# Altium footprint library Diode_SMD.PcbLib: 69 footprints (part 5 of 5)
Each footprint in its own frame and in the unit in brackets; x right, y up, seen from the top. Pads: shape width x height; smd on the part's side, far side on the other; paste and mask are expansions set on the pad; w line width, h text height; cw(c..) or ccw(c..) is an arc to the next point about the centre after c.
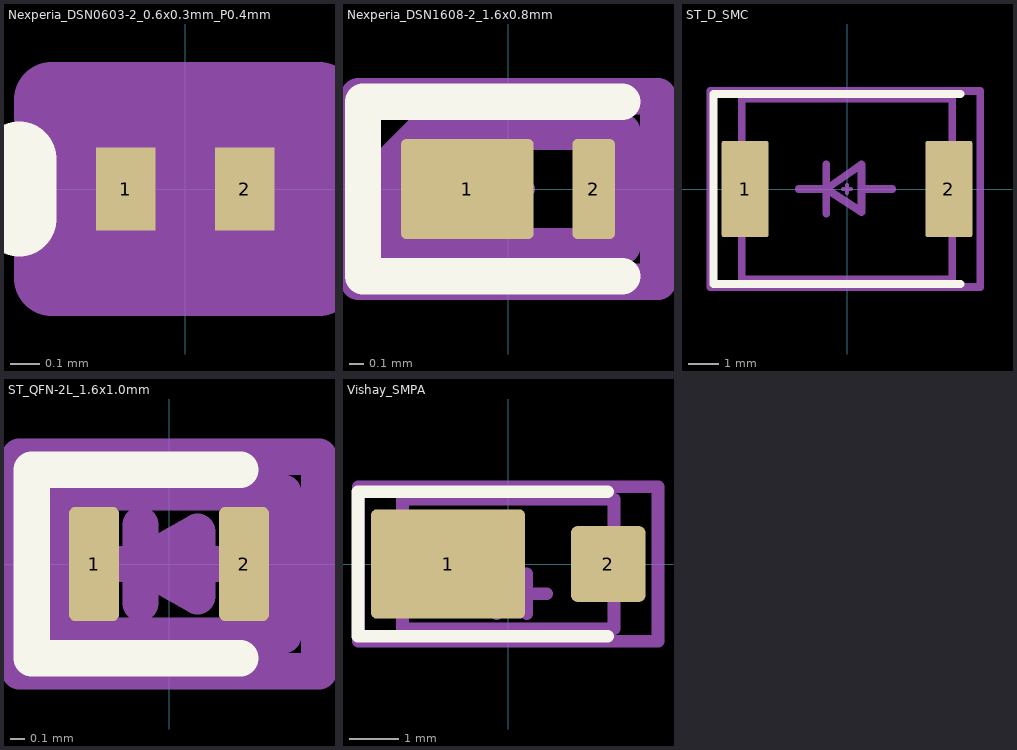
[diagram p4: the footprints below, top view; thin cyan lines are the x and y axes]

## Nexperia_DSN0603-2_0.6x0.3mm_P0.4mm [mm] "Nexperia_DSN0603-2_0.6x0.3mm_P0.4mm"
pads (2):
  rect 0.2x0.28 smd: 1(-0.2,0) 2(0.2,0)
F.SilkS:
  lines w0.254: -0.56,-0.1 -0.56,0.1
F.Paste:
  circle w0.254: c-0.208,0 r0.128
  circle w0.254: c0.208,0 r0.128
Top Component Center:
  lines w0.127: -0.127,0 0.127,0 ; 0,-0.127 0,0.127
Top Assembly:
  lines w0.254: -0.3,-0.15 -0.3,0.15 ; -0.3,-0.15 0.3,-0.15 0.3,0.15 -0.3,0.15 ; -0.3,-0.15 -0.3,0.15 ; -0.3,-0.15 -0.2,-0.15 -0.2,0.15 -0.3,0.15
Top Courtyard:
  lines w0.254: -0.45,-0.3 -0.45,0.3 0.45,0.3 0.45,-0.3 -0.45,-0.3
Top Designator:
  text ".Designator" at -1.127,-0.113 h0.5

## Nexperia_DSN1608-2_1.6x0.8mm [mm] "Nexperia_DSN1608-2_1.6x0.8mm"
pads (2):
  rrect11% 0.93x0.7 smd: 1(-0.285,0)
  rrect25% 0.3x0.7 smd: 2(0.6,0)
F.SilkS:
  lines w0.254: 0.8,-0.61 -1.015,-0.61 -1.015,0.61 0.8,0.61
Top Component Center:
  lines w0.127: -0.127,0 0.127,0 ; 0,-0.127 0,0.127
Top Assembly:
  lines w0.254: -0.8,-0.4 -0.8,0.2 -0.6,0.4 0.8,0.4 0.8,-0.4 -0.8,-0.4
Top Courtyard:
  lines w0.254: -1.05,-0.65 -1.05,0.65 1.05,0.65 1.05,-0.65 -1.05,-0.65
Top Designator:
  text ".Designator" at -1.127,-0.113 h0.5

## ST_D_SMC [mm] "ST_D_SMC"
pads (2):
  rrect10% 1.54x3.14 smd: 1(-3.325,0) 2(3.325,0)
F.SilkS:
  lines w0.254: 3.7,-3.1 -4.36,-3.1 -4.36,3.1 3.7,3.1
Top Component Center:
  lines w0.127: -0.127,0 0.127,0 ; 0,-0.127 0,0.127
Top Assembly:
  lines w0.254: -1.577,0 -0.675,0 ; -0.675,-0.8 -0.675,0.8 ; 0.476,0 1.474,0 ; -0.675,0 0.476,0.8 0.476,-0.749 -0.675,0 ; -3.437,-2.95 -3.437,2.95 3.437,2.95 3.437,-2.95 -3.437,-2.95
Top Courtyard:
  lines w0.254: -4.46,-3.2 -4.46,3.2 4.35,3.2 4.35,-3.2 -4.46,-3.2
Top Designator:
  text ".Designator" at -3.435,-0.344 h1.52

## ST_QFN-2L_1.6x1.0mm [mm] "ST_QFN-2L_1.6x1.0mm"
pads (2):
  rrect25% 0.35x0.8 smd: 1(-0.525,0) 2(0.525,0)
F.SilkS:
  lines w0.254: 0.5,-0.66 -0.96,-0.66 -0.96,0.66 0.5,0.66
Top Component Center:
  lines w0.127: -0.127,0 0.127,0 ; 0,-0.127 0,0.127
Top Assembly:
  lines w0.254: -0.475,0 -0.2,0 ; -0.2,-0.275 -0.2,0.275 ; 0.2,0 0.45,0 ; -0.2,0 0.2,0.225 0.2,-0.225 -0.2,0 ; -0.8,-0.5 -0.8,0.5 0.8,0.5 0.8,-0.5 -0.8,-0.5
Top Courtyard:
  lines w0.254: -1.05,-0.75 -1.05,0.75 1.05,0.75 1.05,-0.75 -1.05,-0.75
Top Designator:
  text ".Designator" at -1.69,-0.169 h0.75

## Vishay_SMPA [mm] "Vishay_SMPA"
pads (2):
  rrect11% 3.1x2.2 smd: 1(-1.21,0)
  rrect17% 1.5x1.52 smd: 2(2.01,0)
F.SilkS:
  lines w0.254: 2,-1.45 -3.02,-1.45 -3.02,1.45 2,1.45
Top Component Center:
  lines w0.127: -0.127,0 0.127,0 ; 0,-0.127 0,0.127
Top Assembly:
  lines w0.254: -0.63,-0.6 -0.23,-0.6 ; -0.23,-1 -0.23,-0.2 ; 0.37,-0.6 0.77,-0.6 ; -0.23,-0.6 0.37,-0.2 0.37,-1 -0.23,-0.6 ; -2.125,-1.3 -2.125,1.3 2.125,1.3 2.125,-1.3 -2.125,-1.3
Top Courtyard:
  lines w0.254: -3.01,-1.55 -3.01,1.55 3.01,1.55 3.01,-1.55 -3.01,-1.55
Top Designator:
  text ".Designator" at -3.435,-0.344 h1.52